# Altium schematic symbol library LT3060EDC15TRMPBF.SchLib: 2 symbols
Pins are listed as number, name and electrical type; pins without a type are passive.

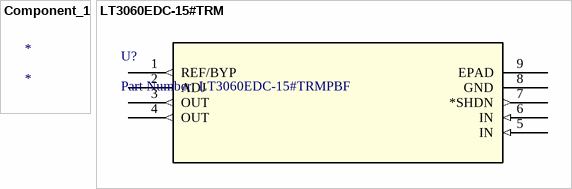
[diagram p0: symbols Component_1 to LT3060EDC-15#TRM]

## Component_1
designator *

## LT3060EDC-15#TRM
designator U?, comment Part Number: LT3060EDC-15#TRMPBF
No Description Available; Vendor: Linear Technology; Built_By: EMA_UL_Team; Manufacturer_Part_Number: LT3060EDC-15#TRMPBF; Copyright: Copyright (C) 2018 Accelerated Designs. All rights reserved; RefDes: RefDes; Type: DEV; Value: Value
footprint DFN-8_DC
pins: 1 REF/BYP (out), 2 ADJ, 3 OUT (out), 4 OUT (out), 5 IN (in), 6 IN (in), 7 *SHDN (out), 8 GND (power), 9 EPAD